# EAGLE library part MINI_DIN_MINI_DIN_8 (library video-max5)
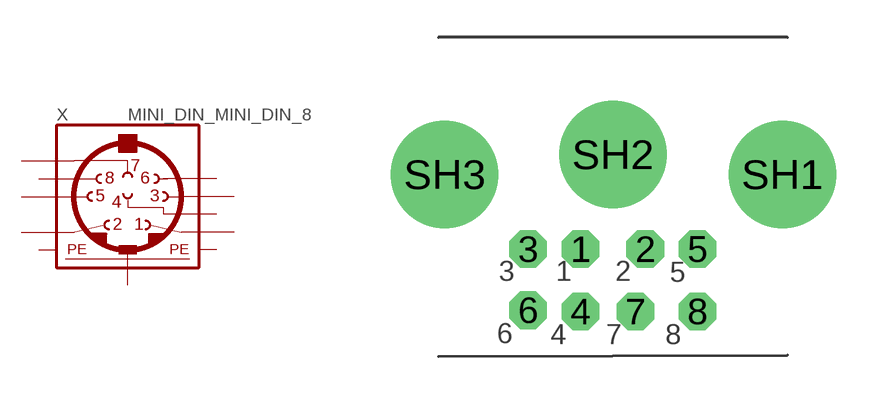
[diagram p9: symbol with the pads of MINI_DIN_M_DIN8; footprint MINI_DIN_M_DIN8]

Designator prefix X

## MINI_DIN_MINI_DIN_8  [MINI_DIN_M_DIN8]
1  1  pas
2  2  pas
3  3  pas
4  4  pas
5  5  pas
6  6  pas
7  7  pas
8  8  pas
SH1  PE1  pwr
SH2  PE2  pwr
SH3  PE3  pwr

## Footprint MINI_DIN_M_DIN8 (pad centres in mm)
drill 1 pad 1.422 octagon: 1 -1.3,-3.8; 2 1.3,-3.8; 3 -3.4,-3.8; 4 -1.3,-6.3; 5 3.4,-3.8; 6 -3.4,-6.25; 7 0.9,-6.3; 8 3.4,-6.3
drill 3.3 pad 3.5 round: SH1 6.8,-0.8; SH2 0,0; SH3 -6.75,-0.8